# EAGLE library part 6620XX231722_662006231722 (library 66200211022_Eagle_WR-MPC3_rev19b)
WR-MPC3 3.00 mm SMT Male Dual Row Angled Header with SMT Solder Tab KIND PROPERTIES Pitch 3 mm Gender Male MATERIAL PROPERTIES Insulator Material LCP Insulator Flammability Rating UL94 V-0 Insulator Color Black Contact Material Copper Alloy Contact Plating Tin Contact Type Stamped GENERAL INFORMATION Operating Temperature -40 up to +105 °C Compliance:RoHS Working Voltage 250 V (AC) Withstanding Voltage 1500 V (AC) Contact Resistance 10 mΩ RISO 1000 MΩ CERTIFICATION UL Approval E323964 WIRE PROPERTIES Packaging Tray <https://katalog.we-online.com/media/images/v2/o33176v209%20Family_WR-MPC3_662xxx231722.jpg> Details see: https://katalog.we-online.com/en/em/MPC3_3_00_SMT_MALE_DUAL_ROW_ANGLED_HEADER_W_SMT_SOLDER_TAB_6620XX231722 Created by Yingchun,Shan 2019-11-14 2019 (C) Würth Elektronik
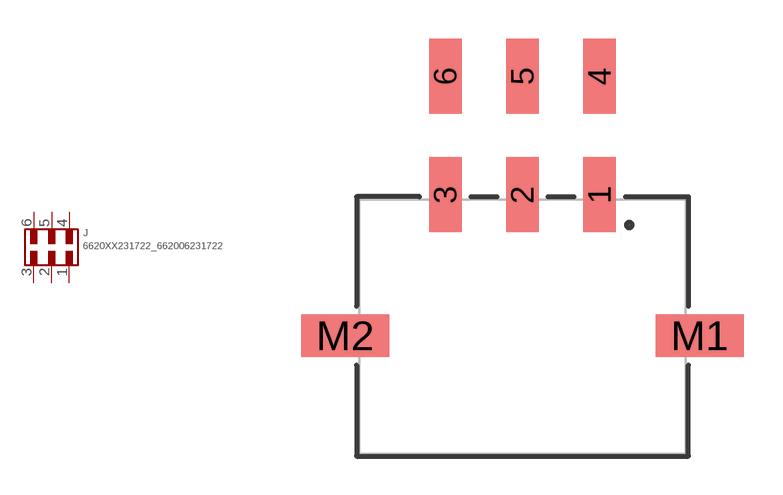
[diagram p114: symbol with the pads of 662006231722; footprint 662006231722]

Designator prefix J

## 6620XX231722_662006231722 (CONTACT-RESISTANCE: 10Ohm; DATASHEET-URL: https://katalog.we-online.com/em/datasheet/662006231722.pdf; GENDER: Male; IR1: 5A; L: 12.7mm; MATE-WITH: WR-MPC3 3.00 mm Female Dual Row Receptacle; MOUNT: SMT; PACKAGING: Tray; PART-NUMBER: 662006231722; PCB-CABLE-PANEL: PCB; PINS: 6; PITCH: 3mm; ROWS: Dual; TOL-R: max.; TYPE: Right Angled; WORKING-VOLTAGE: 250V(AC))  [662006231722]
1  1  pas
2  2  pas
3  3  pas
4  4  pas
5  5  pas
6  6  pas

## Footprint 662006231722 (pad centres in mm)
WR-MPC3 3.00 mm SMT Male Dual Row Angled Header with SMT Solder Tab, 6 Pins
smd 1.27 x 2.92: 1 3,5.13; 2 0,5.13; 3 -3,5.13; 4 3,9.75; 5 0,9.75; 6 -3,9.75
smd 3.43 x 1.65: M1 6.895,-0.35; M2 -6.895,-0.35